# EAGLE library part LTC3407 (library linear-technology)
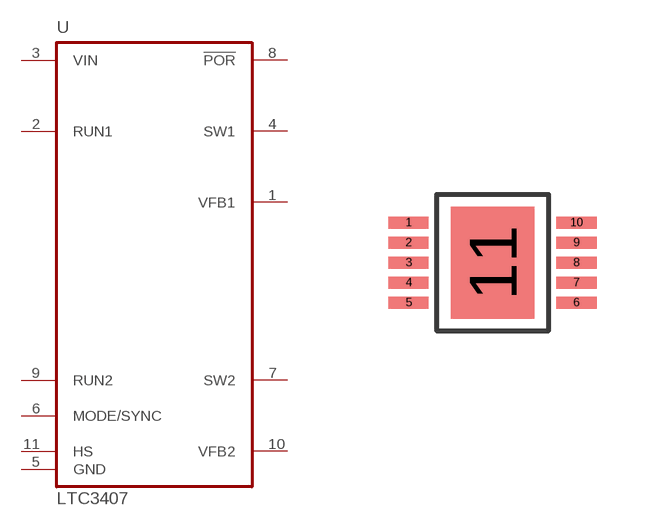
[diagram p20: symbol with the pads of MS10-THERM; footprint MS10-THERM]

Designator prefix U

## LTC3407 (P1I: o)  [MS10-THERM]
1  VFB1
2  RUN1
3  VIN
4  SW1
5  GND
6  MODE/SYNC
7  SW2
8  !POR!
9  RUN2
10  VFB2
11  HS

## Footprint MS10-THERM (pad centres in mm)
smd 1 x 0.3: 1 -2.1,1; 2 -2.1,0.5; 3 -2.1,0; 4 -2.1,-0.5; 5 -2.1,-1; 6 2.1,-1; 7 2.1,-0.5; 8 2.1,0; 9 2.1,0.5; 10 2.1,1
smd 2.1 x 2.8: 11 0,0